# Altium footprint library Connectors_board_to_cable_with_lock.PcbLib: 11 footprints
Each footprint in its own frame and in the unit in brackets; x right, y up, seen from the top. Pads: shape width x height; smd on the part's side, far side on the other; paste and mask are expansions set on the pad; w line width, h text height; cw(c..) or ccw(c..) is an arc to the next point about the centre after c.
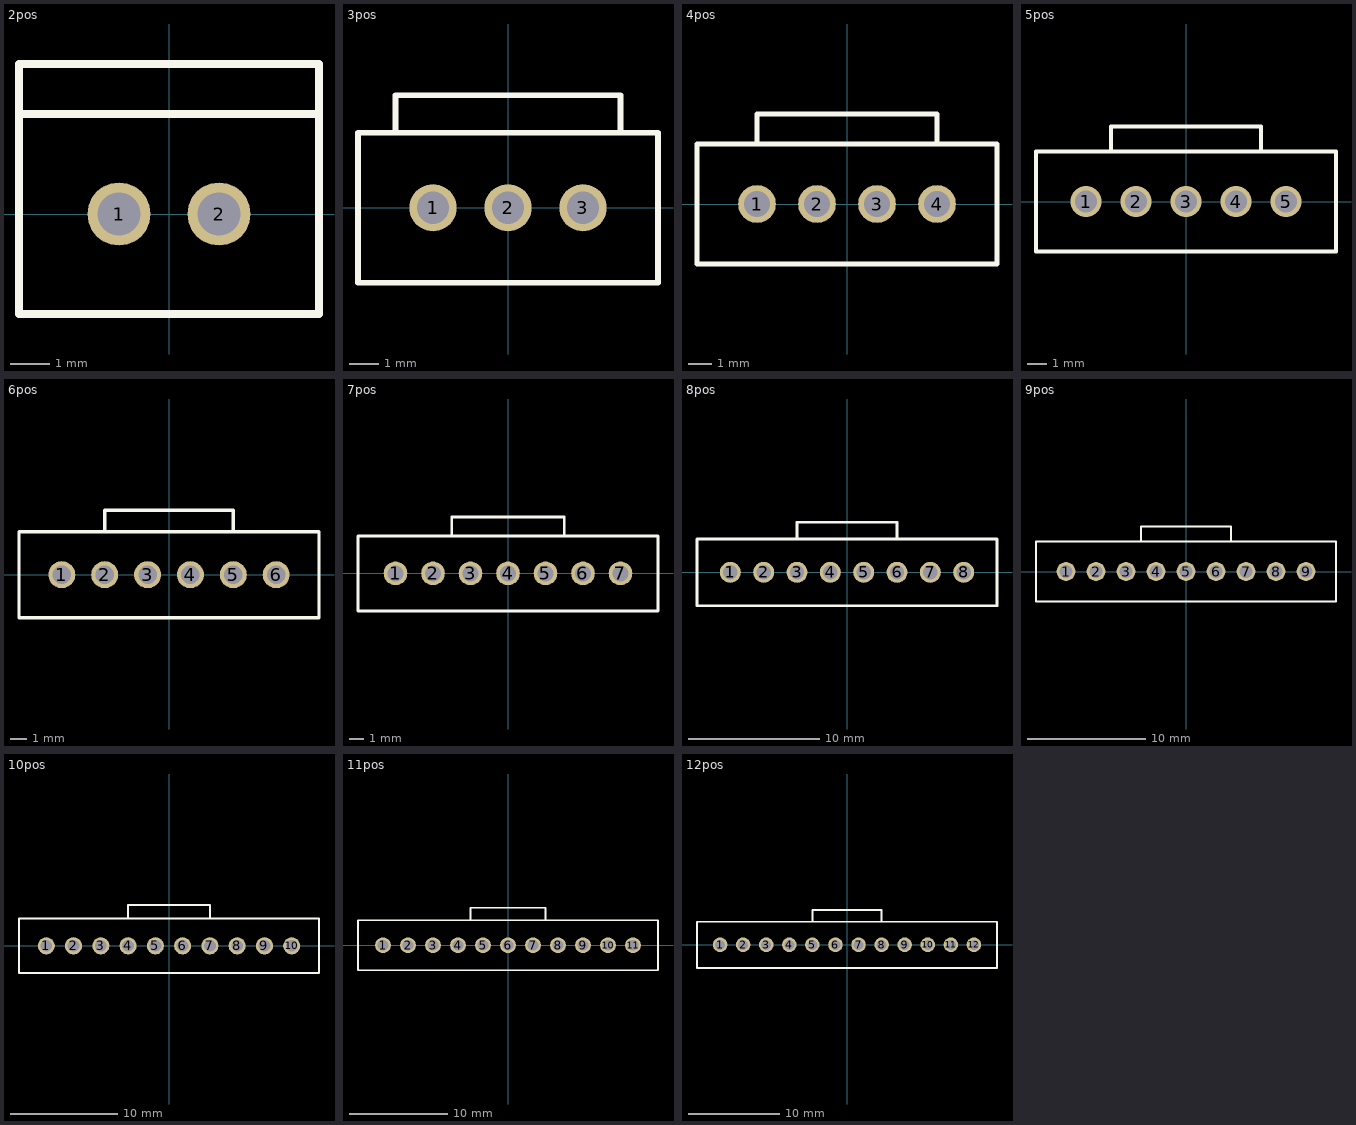
[diagram p0: the footprints below, top view; thin cyan lines are the x and y axes]

## 2pos [mm]
pads (2):
  round 1.6 hole 1.1: 1(-1.27,0) 2(1.27,0)
Top Overlay:
  lines w0.2: -3.81,2.54 -3.81,3.81 3.81,3.81 3.81,2.54 ; -3.81,2.54 -3.81,-2.54 3.81,-2.54 3.81,2.54 ; -3.81,2.54 3.81,2.54
3D body "705430001.stp": height 11.81, standoff -3.3, extent -3.683,-2.54 3.683,4.064

## 3pos [mm]
pads (3):
  round 1.6 hole 1.1: 1(-2.54,0) 2(0,0) 3(2.54,0)
Top Overlay:
  lines w0.2: -3.81,2.54 -3.81,3.81 3.81,3.81 3.81,2.54 ; -5.08,-2.54 -5.08,2.54 5.08,2.54 5.08,-2.54 -5.08,-2.54
3D body "705430002.stp": height 11.81, standoff -3.3, extent -5.08,-2.54 5.08,4.064

## 4pos [mm]
pads (4):
  round 1.6 hole 1.1: 1(-3.81,0) 2(-1.27,0) 3(1.27,0) 4(3.81,0)
Top Overlay:
  lines w0.2: -3.81,2.54 -3.81,3.81 3.81,3.81 3.81,2.54 ; -6.35,-2.54 5.08,-2.54 6.35,-2.54 6.35,2.54 5.08,2.54 -6.35,2.54 -6.35,-2.54
3D body "705430003.stp": height 11.81, standoff -3.3, extent -6.35,-2.54 6.35,4.064

## 5pos [mm]
pads (5):
  round 1.6 hole 1.1: 1(-5.08,0) 2(-2.54,0) 3(0,0) 4(2.54,0) 5(5.08,0)
Top Overlay:
  lines w0.2: -3.81,2.54 -3.81,3.81 3.81,3.81 3.81,2.54 ; -7.62,-2.54 5.08,-2.54 7.62,-2.54 7.62,2.54 5.08,2.54 -7.62,2.54 -7.62,-2.54
3D body "705430004.stp": height 11.81, standoff -3.3, extent -7.62,-2.54 7.62,4.064

## 6pos [mm]
pads (6):
  round 1.6 hole 1.1: 1(-6.35,0) 2(-3.81,0) 3(-1.27,0) 4(1.27,0) 5(3.81,0) 6(6.35,0)
Top Overlay:
  lines w0.2: -3.81,2.54 -3.81,3.81 3.81,3.81 3.81,2.54 ; -8.89,-2.54 5.08,-2.54 8.89,-2.54 8.89,2.54 5.08,2.54 -8.89,2.54 -8.89,-2.54
3D body "705430005.stp": height 11.81, standoff -3.3, extent -8.89,-2.54 8.89,4.064

## 7pos [mm]
pads (7):
  round 1.6 hole 1.1: 1(-7.62,0) 2(-5.08,0) 3(-2.54,0) 4(0,0) 5(2.54,0) 6(5.08,0) 7(7.62,0)
Top Overlay:
  lines w0.2: -3.81,2.54 -3.81,3.81 3.81,3.81 3.81,2.54 ; -10.16,-2.54 -10.16,2.54 5.08,2.54 10.16,2.54 10.16,-2.54 5.08,-2.54 -10.16,-2.54
3D body "705430006.stp": height 11.81, standoff -3.3, extent -10.16,-2.54 10.16,4.064

## 8pos [mm]
pads (8):
  round 1.6 hole 1.1: 1(-8.89,0) 2(-6.35,0) 3(-3.81,0) 4(-1.27,0) 5(1.27,0) 6(3.81,0) 7(6.35,0) 8(8.89,0)
Top Overlay:
  lines w0.2: -3.81,2.54 -3.81,3.81 3.81,3.81 3.81,2.54 ; -11.43,-2.54 5.08,-2.54 11.43,-2.54 11.43,2.54 5.08,2.54 -11.43,2.54 -11.43,-2.54
3D body "705430007.stp": height 11.81, standoff -3.3, extent -11.43,-2.54 11.43,4.064

## 9pos [mm]
pads (9):
  round 1.6 hole 1.1: 1(-10.16,0) 2(-7.62,0) 3(-5.08,0) 4(-2.54,0) 5(0,0) 6(2.54,0) 7(5.08,0) 8(7.62,0) 9(10.16,0)
Top Overlay:
  lines w0.2: -3.81,2.54 -3.81,3.81 3.81,3.81 3.81,2.54 ; -12.7,-2.54 5.08,-2.54 12.7,-2.54 12.7,2.54 5.08,2.54 -12.7,2.54 -12.7,-2.54
3D body "705430008.stp": height 11.81, standoff -3.3, extent -12.7,-2.54 12.7,4.064

## 10pos [mm]
pads (10):
  round 1.6 hole 1.1: 1(-11.43,0) 2(-8.89,0) 3(-6.35,0) 4(-3.81,0) 5(-1.27,0) 6(1.27,0) 7(3.81,0) 8(6.35,0) 9(8.89,0) 10(11.43,0)
Top Overlay:
  lines w0.2: -3.81,2.54 -3.81,3.81 3.81,3.81 3.81,2.54 ; -13.97,-2.54 -13.97,2.54 5.08,2.54 13.97,2.54 13.97,-2.54 5.08,-2.54 -13.97,-2.54
3D body "705430009.stp": height 11.81, standoff -3.3, extent -13.97,-2.54 13.97,4.064

## 11pos [mm]
pads (11):
  round 1.6 hole 1.1: 1(-12.7,0) 2(-10.16,0) 3(-7.62,0) 4(-5.08,0) 5(-2.54,0) 6(0,0) 7(2.54,0) 8(5.08,0) 9(7.62,0) 10(10.16,0) 11(12.7,0)
Top Overlay:
  lines w0.2: -3.81,2.54 -3.81,3.81 3.81,3.81 3.81,2.54 ; -15.24,-2.54 -15.24,2.54 5.08,2.54 15.24,2.54 15.24,-2.54 5.08,-2.54 -15.24,-2.54
3D body "705430010.stp": height 11.81, standoff -3.3, extent -15.24,-2.54 15.24,4.064

## 12pos [mm]
pads (12):
  round 1.6 hole 1.1: 1(-13.97,0) 2(-11.43,0) 3(-8.89,0) 4(-6.35,0) 5(-3.81,0) 6(-1.27,0) 7(1.27,0) 8(3.81,0) 9(6.35,0) 10(8.89,0) 11(11.43,0) 12(13.97,0)
Top Overlay:
  lines w0.2: -3.81,2.54 -3.81,3.81 3.81,3.81 3.81,2.54 ; -16.51,-2.54 5.08,-2.54 16.51,-2.54 16.51,2.54 5.08,2.54 -16.51,2.54 -16.51,-2.54
3D body "705430011.stp": height 11.81, standoff -3.3, extent -16.51,-2.54 16.51,4.064